# Altium footprint library 18252321.PcbLib: 1 footprints
Each footprint in its own frame and in the unit in brackets; x right, y up, seen from the top. Pads: shape width x height; smd on the part's side, far side on the other; paste and mask are expansions set on the pad; w line width, h text height; cw(c..) or ccw(c..) is an arc to the next point about the centre after c.
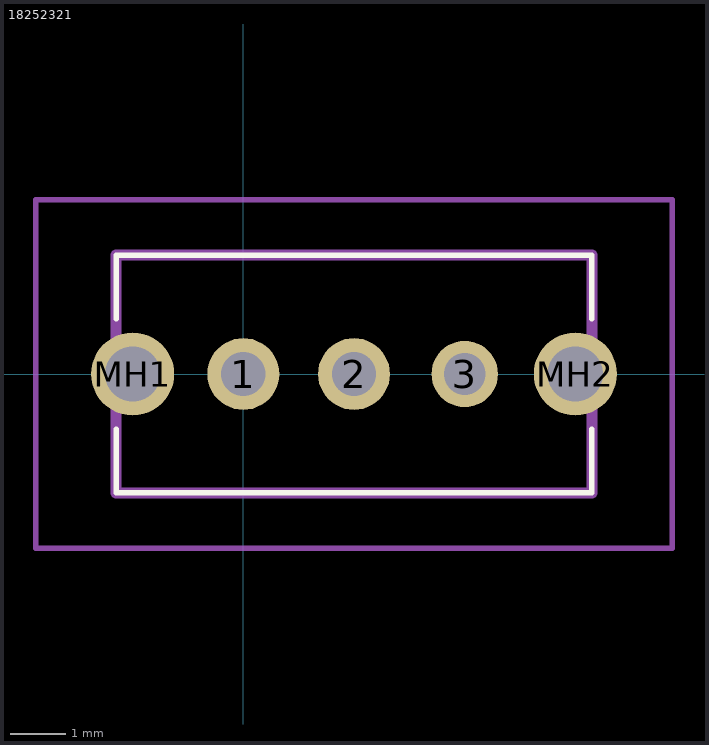
[diagram p0: the footprint, top view; thin cyan lines are the x and y axes]

## 18252321 [mm]
pads (5):
  round 1.3 hole 0.8: 1(0,0) 2(2,0)
  round 1.2 hole 0.75: 3(4,0)
  round 1.5 hole 1: MH1(-2,0) MH2(6,0)
Top Overlay:
  lines w0.1: -2.3,-1 -2.3,-2.15 6.3,-2.15 6.3,-1 ; -2.3,1 -2.3,2.15 6.3,2.15 6.3,1
Mechanical 15:
  lines w0.2: -2.3,-2.15 6.3,-2.15 6.3,2.15 -2.3,2.15 -2.3,-2.15
Mechanical 20:
  lines w0.1: -3.75,-3.15 7.75,-3.15 7.75,3.15 -3.75,3.15 -3.75,-3.15